# Altium footprint library SamacSys_Parts.PCBLIB: 20 footprints (part 2 of 2)
Each footprint in its own frame and in the unit in brackets; x right, y up, seen from the top. Pads: shape width x height; smd on the part's side, far side on the other; paste and mask are expansions set on the pad; w line width, h text height; cw(c..) or ccw(c..) is an arc to the next point about the centre after c.
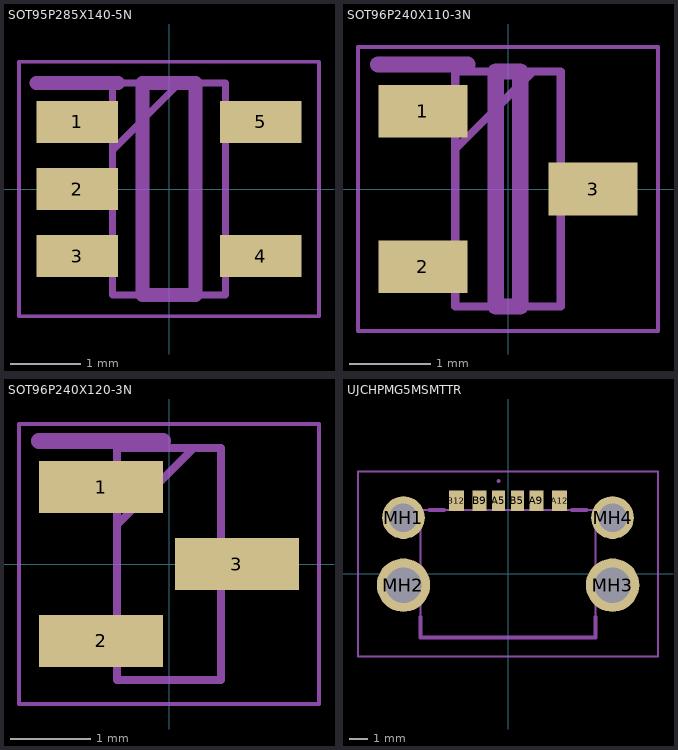
[diagram p1: the footprints below, top view; thin cyan lines are the x and y axes]

## SOT95P285X140-5N [mm]
pads (5):
  rect 1.15x0.6 smd: 1(-1.3,0.95) 2(-1.3,0) 3(-1.3,-0.95) 4(1.3,-0.95) 5(1.3,0.95)
tDocu:
  lines w0.05: -2.125,-1.8 2.125,-1.8 2.125,1.8 -2.125,1.8 -2.125,-1.8
  lines w0.1: -0.8,0.55 0.15,1.5 ; -0.8,-1.5 0.8,-1.5 0.8,1.5 -0.8,1.5 -0.8,-1.5
tPlace:
  lines w0.2: -1.875,1.5 -0.725,1.5 ; -0.375,-1.5 0.375,-1.5 0.375,1.5 -0.375,1.5 -0.375,-1.5

## SOT96P240X110-3N [mm]
pads (3):
  rect 1.1x0.65 smd: 1(-1.05,0.96) 2(-1.05,-0.96) 3(1.05,0)
tDocu:
  lines w0.05: -1.85,-1.75 1.85,-1.75 1.85,1.75 -1.85,1.75 -1.85,-1.75
  lines w0.1: -0.65,0.49 0.31,1.45 ; -0.65,-1.45 0.65,-1.45 0.65,1.45 -0.65,1.45 -0.65,-1.45
tPlace:
  lines w0.2: -1.6,1.535 -0.5,1.535 ; -0.15,-1.45 0.15,-1.45 0.15,1.45 -0.15,1.45 -0.15,-1.45

## SOT96P240X120-3N [mm]
pads (3):
  rect 1.55x0.65 smd: 1(-0.85,0.96) 2(-0.85,-0.96) 3(0.85,0)
tDocu:
  lines w0.05: -1.875,-1.75 1.875,-1.75 1.875,1.75 -1.875,1.75 -1.875,-1.75
  lines w0.1: -0.65,0.49 0.31,1.45 ; -0.65,-1.45 0.65,-1.45 0.65,1.45 -0.65,1.45 -0.65,-1.45
tPlace:
  lines w0.2: -1.625,1.535 -0.075,1.535

## UJCHPMG5MSMTTR [mm]
pads (10):
  rect 0.7x1.1 smd: A5(-0.5,3.9) B5(0.5,3.9)
  rect 0.76x1.1 smd: A9(1.52,3.9) B9(-1.52,3.9)
  rect 0.8x1.1 smd: A12(2.75,3.9) B12(-2.75,3.9)
  round 2.28 hole 1.52: MH1(-5.575,3) MH4(5.575,3)
  round 2.85 hole 1.9: MH2(-5.575,-0.6) MH3(5.575,-0.6)
tDocu:
  lines w0.1: -8,-4.4 8,-4.4 ; -8,-4.4 -8,5.45 ; -8,-4.4 8,-4.4 ; -8,-4.4 -8,5.45 ; -8,5.45 8,5.45 ; -8,5.45 8,5.45 ; 8,-4.4 8,5.45 ; 8,-4.4 8,5.45 ; -4.67,-3.4 4.67,-3.4 4.67,3.4 -4.67,3.4 -4.67,-3.4
tPlace:
  lines w0.1: -0.5,4.9 cw(c-0.5,4.95) -0.5,5 ; -0.5,4.9 -0.5,4.9 ; -0.5,4.9 ccw(c-0.5,4.95) -0.5,5 ; -0.5,5 -0.5,5
  lines w0.2: -4.67,-2.3 -4.67,-3.4 4.67,-3.4 4.67,-2.3 ; -4.2,3.4 -3.4,3.4 ; 3.4,3.4 4.2,3.4